# Altium schematic symbol library SCH - POWER - MODULE - ITS428L2.SchLib: 1 symbol
Pins are listed as number, name and electrical type; pins without a type are passive.

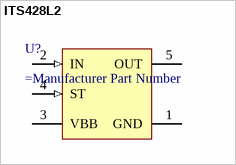
[diagram p0: symbol ITS428L2]

## ITS428L2
designator U?
*
pins: 1 GND (power) "Logic ground", 2 IN (in) "Input,activates the power switch in case of logical high signal", 3 VBB (power) "Positive power supply voltage the tab is shorted to pin 3", 4 ST (in) "Diagnostic feedback,low on failure", 5 OUT (power) "Output to the load"